# EAGLE library part MC889 (library dec-con)
RTL Hex Inverter
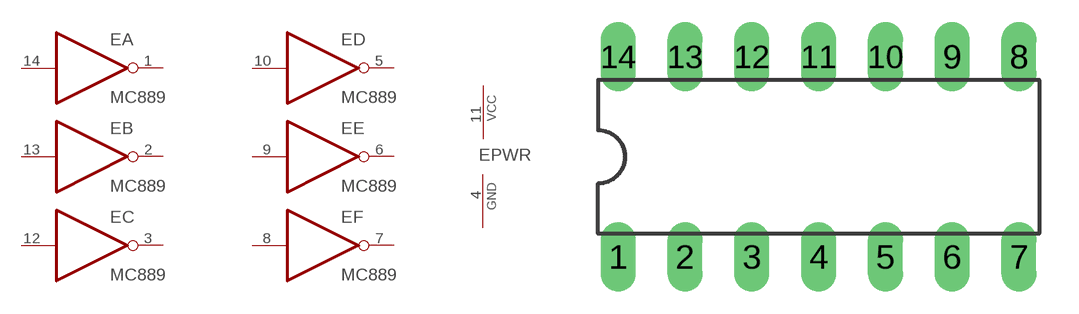
[diagram p47: symbol with the pads of DIL14; footprint DIL14]

Designator prefix E; gates A=NOT B=NOT C=NOT D=NOT E=NOT F=NOT PWR=PWRN

## MC889P  [DIL14]
1  A:O  out
2  B:O  out
3  C:O  out
4  PWR:GND  pwr
5  D:O  out
6  E:O  out
7  F:O  out
8  F:I  in
9  E:I  in
10  D:I  in
11  PWR:VCC  pwr
12  C:I  in
13  B:I  in
14  A:I  in

## Footprint DIL14 (pad centres in mm)
Dual In Line Package
drill 0.813 long: 1 -7.62,-3.81; 2 -5.08,-3.81; 3 -2.54,-3.81; 4 0,-3.81; 5 2.54,-3.81; 6 5.08,-3.81; 7 7.62,-3.81; 8 7.62,3.81; 9 5.08,3.81; 10 2.54,3.81; 11 0,3.81; 12 -2.54,3.81; 13 -5.08,3.81; 14 -7.62,3.81